# Altium footprint library 压敏电阻.PcbLib: 1 footprints
Each footprint in its own frame and in the unit in brackets; x right, y up, seen from the top. Pads: shape width x height; smd on the part's side, far side on the other; paste and mask are expansions set on the pad; w line width, h text height; cw(c..) or ccw(c..) is an arc to the next point about the centre after c.
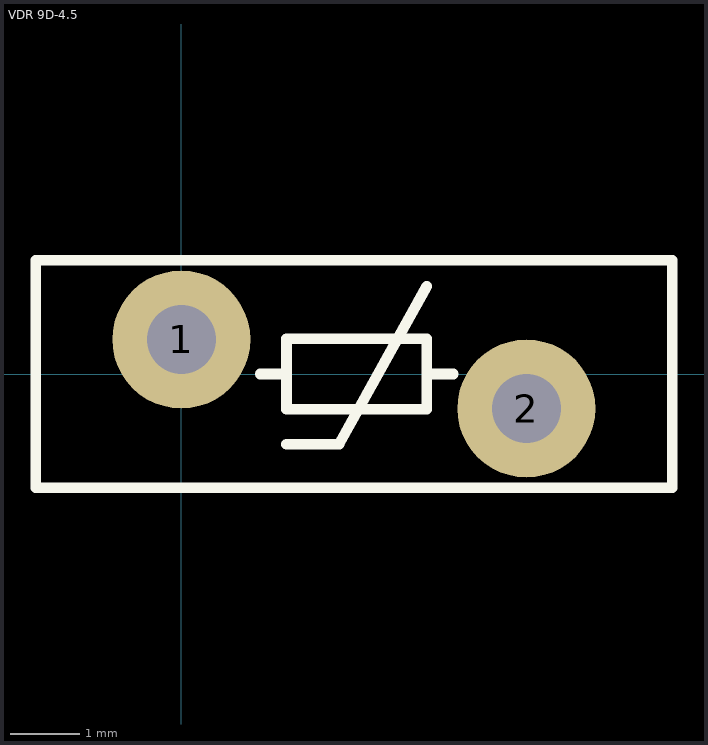
[diagram p0: the footprint, top view; thin cyan lines are the x and y axes]

## VDR 9D-4.5 [mm] "压敏电阻9mm*4.5mm(直径*厚度）"
pads (2):
  round 2 hole 1: 1(0,0.5) 2(5,-0.5)
Top Overlay:
  lines w0.152: 1.143,0 1.524,0 ; 1.524,-1.016 2.286,-1.016 3.556,1.27 ; 3.556,0 3.937,0 ; -2.108,-1.651 -2.108,1.651 7.112,1.651 7.112,-1.651 -2.108,-1.651 ; 1.524,-0.508 3.556,-0.508 3.556,0.508 1.524,0.508 1.524,-0.508
3D body: height 10, standoff -3.5, extent -1.998,-1.5 6.999,1.5